# EAGLE library part XR-16C550P (library exar)
UART/FIFO
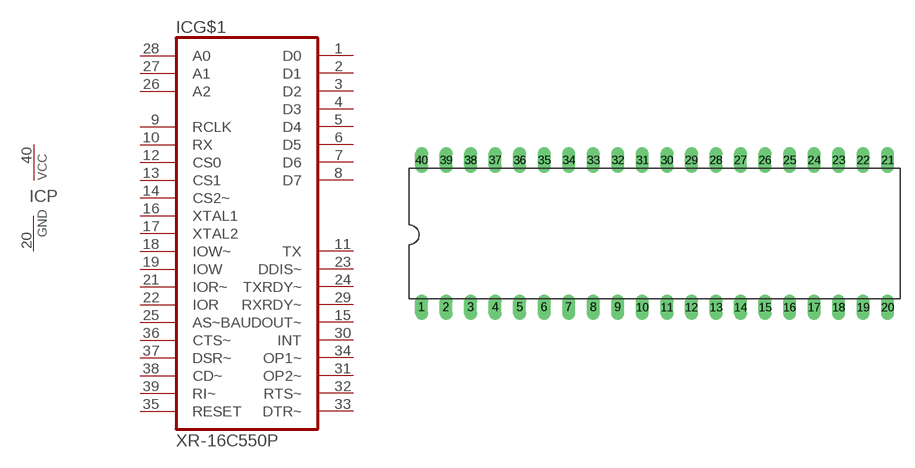
[diagram p73: symbol with the pads of DIL40; footprint DIL40]

Designator prefix IC; gates G$1=16C550 P=PWRN

## XR-16C550P  [DIL40]
1  G$1:D0
2  G$1:D1
3  G$1:D2
4  G$1:D3
5  G$1:D4
6  G$1:D5
7  G$1:D6
8  G$1:D7
9  G$1:RCLK  in
10  G$1:RX  in
11  G$1:TX  out
12  G$1:CS0  in
13  G$1:CS1  in
14  G$1:CS2~  in
15  G$1:BAUDOUT~  out
16  G$1:XTAL1  in
17  G$1:XTAL2  in
18  G$1:IOW~  in
19  G$1:IOW  in
20  P:GND  pwr
21  G$1:IOR~  in
22  G$1:IOR  in
23  G$1:DDIS~  out
24  G$1:TXRDY~  out
25  G$1:AS~  in
26  G$1:A2  in
27  G$1:A1  in
28  G$1:A0  in
29  G$1:RXRDY~  out
30  G$1:INT  out
31  G$1:OP2~  out
32  G$1:RTS~  out
33  G$1:DTR~  out
34  G$1:OP1~  out
35  G$1:RESET  in
36  G$1:CTS~  in
37  G$1:DSR~  in
38  G$1:CD~  in
39  G$1:RI~  in
40  P:VCC  pwr

## Footprint DIL40 (pad centres in mm)
Dual In Line Package
drill 0.813 long: 1 -24.13,-7.62; 2 -21.59,-7.62; 3 -19.05,-7.62; 4 -16.51,-7.62; 5 -13.97,-7.62; 6 -11.43,-7.62; 7 -8.89,-7.62; 8 -6.35,-7.62; 9 -3.81,-7.62; 10 -1.27,-7.62; 11 1.27,-7.62; 12 3.81,-7.62; 13 6.35,-7.62; 14 8.89,-7.62; 15 11.43,-7.62; 16 13.97,-7.62; 17 16.51,-7.62; 18 19.05,-7.62; 19 21.59,-7.62; 20 24.13,-7.62; 21 24.13,7.62; 22 21.59,7.62; 23 19.05,7.62; 24 16.51,7.62; 25 13.97,7.62; 26 11.43,7.62; 27 8.89,7.62; 28 6.35,7.62; 29 3.81,7.62; 30 1.27,7.62; 31 -1.27,7.62; 32 -3.81,7.62; 33 -6.35,7.62; 34 -8.89,7.62; 35 -11.43,7.62; 36 -13.97,7.62; 37 -16.51,7.62; 38 -19.05,7.62; 39 -21.59,7.62; 40 -24.13,7.62